# EAGLE library part LMC555 (library national-instruments)
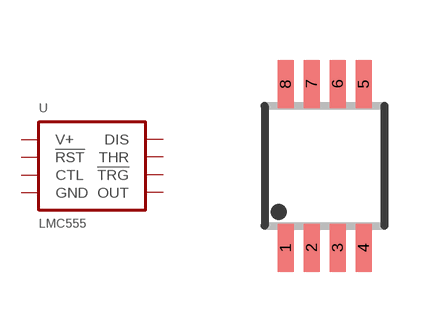
[diagram p1: symbol with the pads of MSOP.8; footprint MSOP.8]

Designator prefix -

## LMC555  [MSOP.8]
1  GND
2  !TRG
3  OUT
4  !RST
5  CTL
6  THR
7  DIS
8  V+

## Footprint MSOP.8 (pad centres in mm)
smd 0.4 x 1.2: 1 -0.975,-2.05; 2 -0.325,-2.05; 3 0.325,-2.05; 4 0.975,-2.05; 5 0.975,2.05; 6 0.325,2.05; 7 -0.325,2.05; 8 -0.975,2.05